# EAGLE library part IX4427 (library RoboJackets-PowerICs)
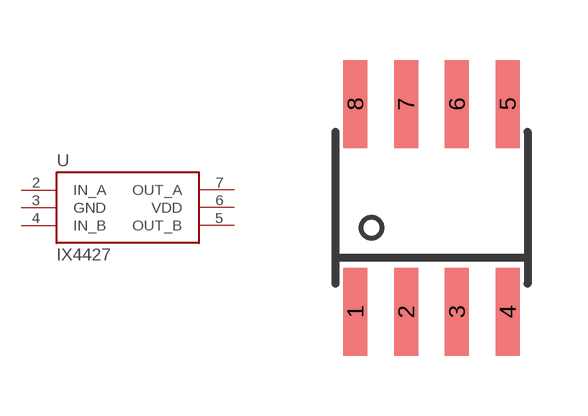
[diagram p5: symbol with the pads of SOIC-8; footprint SOIC-8]

Designator prefix U

## IX4427N  [SOIC-8]
2  IN_A
3  GND
4  IN_B
5  OUT_B
6  VDD
7  OUT_A

## Footprint SOIC-8 (pad centres in mm)
SMALL OUTLINE INTEGRATED CIRCUIT body 3.9 mm/JEDEC MS-012AA
smd 0.6 x 2.2: 1 -1.905,-2.6; 2 -0.635,-2.6; 3 0.635,-2.6; 4 1.905,-2.6; 5 1.905,2.6; 6 0.635,2.6; 7 -0.635,2.6; 8 -1.905,2.6